# EAGLE library part FILTER_CMC_1.27X1MM (library !GPLIB_PASSIVE)
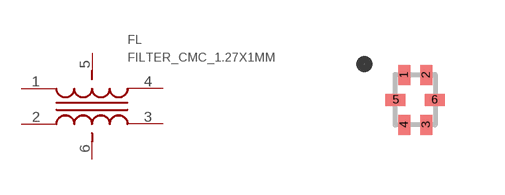
[diagram p5: symbol with the pads of CMC_1.27X1MM; footprint CMC_1.27X1MM]

Designator prefix FL

## FILTER_CMC_1.27X1MM_BCMEF122P900H  [CMC_1.27X1MM]
1  1  pas
2  4  pas
3  3  pas
4  2  pas
5  5  pas
6  6  pas

## FILTER_CMC_1.27X1MM_ICMEF112P350MFR  [CMC_1.27X1MM]
Pads as for CMC_1.27X1MM

## FILTER_CMC_1.27X1MM_ICMEF112P900MFR  [CMC_1.27X1MM]
Pads as for CMC_1.27X1MM

## Footprint CMC_1.27X1MM (pad centres in mm)
smd 0.3 x 0.5: 1 -0.275,0.625; 2 0.275,0.625; 3 0.275,-0.625; 4 -0.275,-0.625
smd 0.5 x 0.3: 5 -0.49,0; 6 0.49,0